# EAGLE library part HMC5983 (library Oles komponentbibliotek)
3-Axis Digital Compass IC I²C up to 3.4 MHz and SPI up to 8.0 MHz 220 Hz Maximum Output Rate 2.16 to 3.6V, 100 μA Temperature compensated data output and temperature output 12-Bit ADC achieves 2 milli-gauss field resolution Wide Magnetic Field Range (+/-8 Oe)
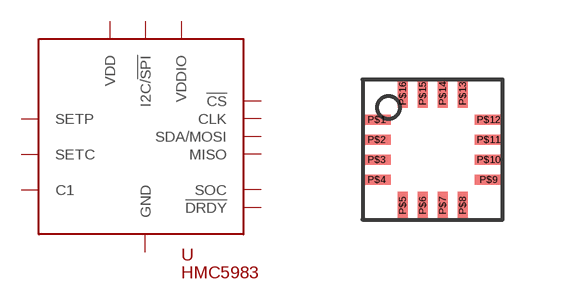
[diagram p57: symbol with the pads of LPCC16; footprint LPCC16]

Designator prefix -

## HMC5983  [LPCC16]
P$1  CLK  in
P$2  VDD  pwr
P$4  !CS  in
P$5  MISO  out
P$6  I2C/!SPI  in
P$8  SETP  pas
P$9  SOC  in
P$10  C1  pas
P$11  GND  pwr
P$12  SETC  pas
P$13  VDDIO  pwr
P$15  !DRDY  out
P$16  SDA/MOSI  in

## Footprint LPCC16 (pad centres in mm)
smd 0.7 x 0.25: P$1 -1.4,0.7; P$2 -1.4,0.2; P$3 -1.4,-0.3; P$4 -1.4,-0.8; P$9 1.4,-0.8; P$10 1.4,-0.3; P$11 1.4,0.2; P$12 1.4,0.7
smd 0.25 x 0.7: P$5 -0.75,-1.45; P$6 -0.25,-1.45; P$7 0.25,-1.45; P$8 0.75,-1.45; P$13 0.75,1.35; P$14 0.25,1.35; P$15 -0.25,1.35; P$16 -0.75,1.35